# Altium integrated library CAP 1uF - 29.01.25 - 00.19.IntLib: 1 symbol
Pins are listed as number, name and electrical type; pins without a type are passive.

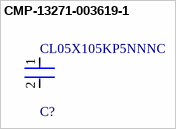
[diagram p0: symbol CMP-13271-003619-1]

## CMP-13271-003619-1
designator C?, comment CL05X105KP5NNNC
Cap Ceramic 1uF 10V X6S ±10% SMD 0402 +105°C Paper T/R; Case Code (Metric): 1005; Mount: Surface Mount; Min Operating Temperature: -55°C; Capacitance: 1uF; Width: 0.02inch; Length: 0.039inch; Voltage Rating: 10V; Packaging: Cut Tape; Max Operating Temperature: 105°C; Voltage Rating (DC): 10V; Thickness: 0.022inch; Case/Package: 0402; Case Code (Imperial): 0402; Tolerance: 10%
footprint FP-CL599-IPC_C
footprint FP-CL599-IPC_A
footprint FP-CL599-IPC_B
pins: 1, 2